# EAGLE library part BQ76PL536A (library BMS-Aaron (v6))
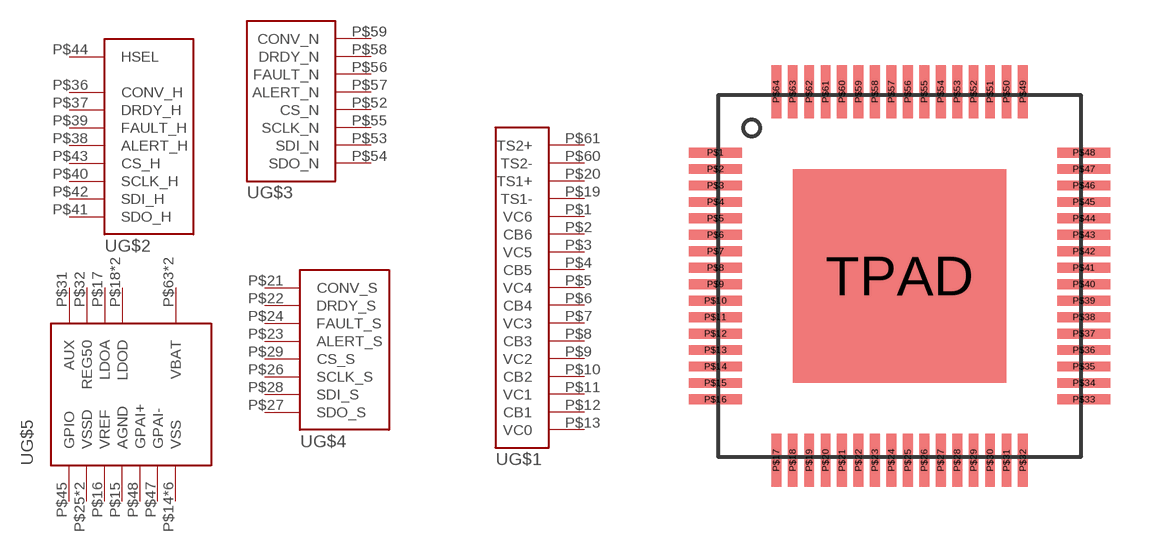
[diagram p0: symbol with the pads of S-PQFP-G64; footprint S-PQFP-G64]

Designator prefix -; gates G$1=BQ76PL536A_CELLS G$2=BQ76PL536A_HOSTCOMM G$3=BQ76PL536A_NORTHCOMM G$4=BQ76PL536A_SOUTHCOMM G$5=BQ76PL536A_POWER

## BQ76PL536A  [S-PQFP-G64]
P$1  G$1:VC6  in
P$2  G$1:CB6  in
P$3  G$1:VC5  in
P$4  G$1:CB5  in
P$5  G$1:VC4  in
P$6  G$1:CB4  in
P$7  G$1:VC3  in
P$8  G$1:CB3  in
P$9  G$1:VC2  in
P$10  G$1:CB2  in
P$11  G$1:VC1  in
P$12  G$1:CB1  in
P$13  G$1:VC0  in
P$14  G$5:VSS  pwr
P$15  G$5:AGND  in
P$16  G$5:VREF  pwr
P$17  G$5:LDOA  pwr
P$18  G$5:LDOD  pwr
P$19  G$1:TS1-  in
P$20  G$1:TS1+  in
P$21  G$4:CONV_S  in
P$22  G$4:DRDY_S  out
P$23  G$4:ALERT_S  out
P$24  G$4:FAULT_S  out
P$25  G$5:VSSD  pwr
P$26  G$4:SCLK_S  in
P$27  G$4:SDO_S  out
P$28  G$4:SDI_S  in
P$29  G$4:CS_S  in
P$31  G$5:AUX  out
P$32  G$5:REG50  pwr
P$33  G$5:VSS  pwr
P$34  G$5:VSS  pwr
P$35  G$5:VSS  pwr
P$36  G$2:CONV_H  in
P$37  G$2:DRDY_H  out
P$38  G$2:ALERT_H  out
P$39  G$2:FAULT_H  out
P$40  G$2:SCLK_H  in
P$41  G$2:SDO_H  out
P$42  G$2:SDI_H  in
P$43  G$2:CS_H  in
P$44  G$2:HSEL  in
P$45  G$5:GPIO
P$46  G$5:LDOD  pwr
P$47  G$5:GPAI-  in
P$48  G$5:GPAI+  in
P$49  G$5:VSSD  pwr
P$50  G$5:VSS  pwr
P$52  G$3:CS_N  out
P$53  G$3:SDI_N  out
P$54  G$3:SDO_N  in
P$55  G$3:SCLK_N  out
P$56  G$3:FAULT_N  in
P$57  G$3:ALERT_N  in
P$58  G$3:DRDY_N  in
P$59  G$3:CONV_N  out
P$60  G$1:TS2-  in
P$61  G$1:TS2+  in
P$63  G$5:VBAT  pwr
P$64  G$5:VBAT  pwr
TPAD  G$5:VSS  pwr

## Footprint S-PQFP-G64 (pad centres in mm)
smd 1.6 x 0.3: P$1 -5.6,3.75; P$2 -5.6,3.25; P$3 -5.6,2.75; P$4 -5.6,2.25; P$5 -5.6,1.75; P$6 -5.6,1.25; P$7 -5.6,0.75; P$8 -5.6,0.25; P$9 -5.6,-0.25; P$10 -5.6,-0.75; P$11 -5.6,-1.25; P$12 -5.6,-1.75; P$13 -5.6,-2.25; P$14 -5.6,-2.75; P$15 -5.6,-3.25; P$16 -5.6,-3.75; P$33 5.6,-3.75; P$34 5.6,-3.25; P$35 5.6,-2.75; P$36 5.6,-2.25; P$37 5.6,-1.75; P$38 5.6,-1.25; P$39 5.6,-0.75; P$40 5.6,-0.25; P$41 5.6,0.25; P$42 5.6,0.75; P$43 5.6,1.25; P$44 5.6,1.75; P$45 5.6,2.25; P$46 5.6,2.75; P$47 5.6,3.25; P$48 5.6,3.75
smd 0.3 x 1.6: P$17 -3.75,-5.6; P$18 -3.25,-5.6; P$19 -2.75,-5.6; P$20 -2.25,-5.6; P$21 -1.75,-5.6; P$22 -1.25,-5.6; P$23 -0.75,-5.6; P$24 -0.25,-5.6; P$25 0.25,-5.6; P$26 0.75,-5.6; P$27 1.25,-5.6; P$28 1.75,-5.6; P$29 2.25,-5.6; P$30 2.75,-5.6; P$31 3.25,-5.6; P$32 3.75,-5.6; P$49 3.75,5.6; P$50 3.25,5.6; P$51 2.75,5.6; P$52 2.25,5.6; P$53 1.75,5.6; P$54 1.25,5.6; P$55 0.75,5.6; P$56 0.25,5.6; P$57 -0.25,5.6; P$58 -0.75,5.6; P$59 -1.25,5.6; P$60 -1.75,5.6; P$61 -2.25,5.6; P$62 -2.75,5.6; P$63 -3.25,5.6; P$64 -3.75,5.6
smd 6.5 x 6.5: TPAD 0,0